# EAGLE library part 4066 (library TABOR K1)
Quad bilateral ANALOG SWITCH
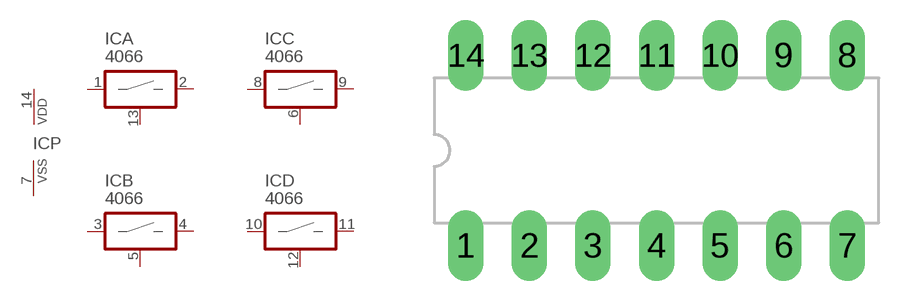
[diagram p58: symbol with the pads of DIL14; footprint DIL14]

Designator prefix IC; gates A=4066 B=4066 C=4066 D=4066 P=PWR-VDD-VSS

## 4066N  [DIL14]
1  A:A  hiz
2  A:B  hiz
3  B:A  hiz
4  B:B  hiz
5  B:C  in
6  C:C  in
7  P:VSS  pwr
8  C:A  hiz
9  C:B  hiz
10  D:A  hiz
11  D:B  hiz
12  D:C  in
13  A:C  in
14  P:VDD  pwr

## Footprint DIL14 (pad centres in mm)
Púzdro DIL14 : diera s pokovenim = 0,6 mm, vrtanie = 0,8mm
drill 0.813 pad 1.422 long: 1 -7.62,-3.81; 2 -5.08,-3.81; 3 -2.54,-3.81; 4 0,-3.81; 5 2.54,-3.81; 6 5.08,-3.81; 7 7.62,-3.81; 8 7.62,3.81; 9 5.08,3.81; 10 2.54,3.81; 11 0,3.81; 12 -2.54,3.81; 13 -5.08,3.81; 14 -7.62,3.81